# Altium footprint library BC80725215.PcbLib: 3 footprints
Each footprint in its own frame and in the unit in brackets; x right, y up, seen from the top. Pads: shape width x height; smd on the part's side, far side on the other; paste and mask are expansions set on the pad; w line width, h text height; cw(c..) or ccw(c..) is an arc to the next point about the centre after c.
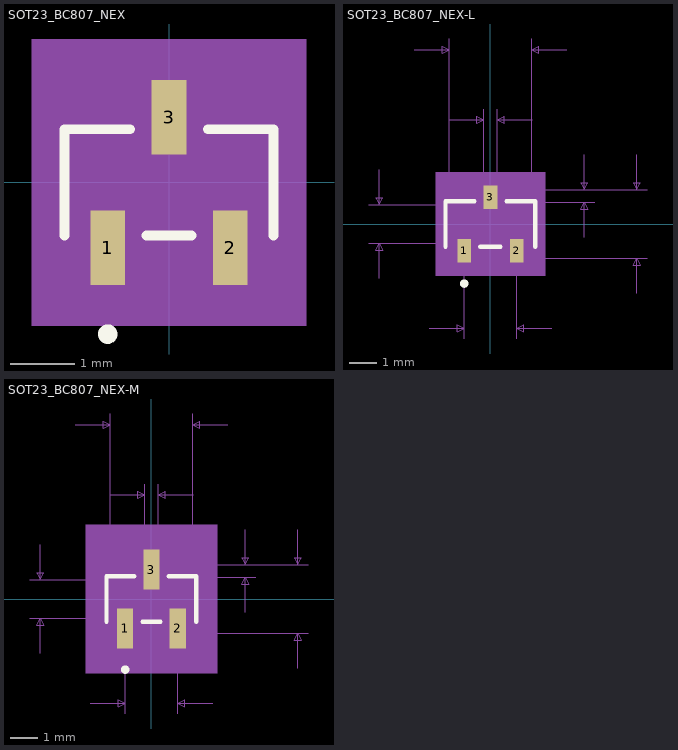
[diagram p0: the footprints below, top view; thin cyan lines are the x and y axes]

## SOT23_BC807_NEX [mil]
pads (3):
  rect 21.36x45.56 smd paste+0 mask+0: 1(-37.5,-40) 2(37.5,-40) 3(0,40)
Top Overlay:
  circle w6: c-37.5,-92.78 r3
  lines w6: -64,-32.5 -64,32.5 -23.78,32.5 ; -13.72,-32.5 13.72,-32.5 ; 23.78,32.5 64,32.5 64,-32.5
Mechanical 5:
  region: -84,87.78 84,87.78 84,-87.78 -84,-87.78
Mechanical 13:
  circle w0: c-37.5,-17.5 r3
  lines w1: -59,-27.5 -59,27.5 59,27.5 59,-27.5 -59,-27.5 ; -47,-49 -28,-49 -28,-27.5 -47,-27.5 -47,-49 ; -9.5,27.5 -9.5,49 9.5,49 9.5,27.5 -9.5,27.5 ; 28,-49 47,-49 47,-27.5 28,-27.5 28,-49
Mechanical 15:
  region: -69,-37.5 -69,37.5 -19.5,37.5 -19.5,72.78 19.5,72.78 19.5,37.5 69,37.5 69,-37.5 57,-37.5 57,-72.78 -57,-72.78 -57,-37.5
  lines w6: -69,-37.5 -57,-37.5 -57,-72.78 57,-72.78 57,-37.5 69,-37.5 69,37.5 19.5,37.5 19.5,72.78 -19.5,72.78 -19.5,37.5 -69,37.5 -69,-37.5
3D body "SOT23_BC807_NEX.step": height 43.11, standoff 0, extent -59.01,-49.01 59.02,49.02
3D body: height 10, standoff 0, extent 0,0 10,10

## SOT23_BC807_NEX-L [mil]
pads (3):
  rect 19.79x33.75 smd paste+0 mask+0: 1(-37.5,-38.03) 2(37.5,-38.03) 3(0,38.03)
Top Overlay:
  circle w6: c-37.5,-84.91 r3
  lines w6: -64,-32.5 -64,32.5 -22.99,32.5 ; -14.51,-32.5 14.51,-32.5 ; 22.99,32.5 64,32.5 64,-32.5
Mechanical 5:
  region: -78,73.91 78,73.91 78,-73.91 -78,-73.91
Mechanical 7:
  lines w1: -174,-27.5 0,-27.5 ; -174,27.5 0,27.5 ; -159,-77.5 -159,-27.5 ; -159,77.5 -159,27.5 ; -109,249 -59,249 ; -87.5,-149 -37.5,-149 ; -59.5,149 -9.5,149 ; -59,27.5 -59,264 ; -37.5,-164 -37.5,-49 ; -9.5,49 -9.5,164 ; 0,-49 224,-49 ; 0,31 149,31 ; 9.5,49 9.5,164 ; 37.5,-164 37.5,-49 ; 59,27.5 59,264 ; 59.5,149 9.5,149 ; 87.5,-149 37.5,-149 ; 109,249 59,249 ; 134,-19 134,31 ; 134,99 134,49 ; 149,49 0,49 224,49 ; 209,-99 209,-49 ; 209,99 209,49 ; -159,-27.5 -154,-37.5 -164,-37.5 -159,-27.5 ; -159,27.5 -154,37.5 -164,37.5 -159,27.5 ; -59,249 -69,244 -69,254 -59,249 ; -37.5,-149 -47.5,-154 -47.5,-144 -37.5,-149 ; -9.5,149 -19.5,144 -19.5,154 -9.5,149 ; 9.5,149 19.5,144 19.5,154 9.5,149 ; 37.5,-149 47.5,-154 47.5,-144 37.5,-149 ; 59,249 69,244 69,254 59,249 ; 134,31 139,21 129,21 134,31 ; 134,49 139,59 129,59 134,49 ; 209,-49 214,-59 204,-59 209,-49 ; 209,49 214,59 204,59 209,49
  text "0.055in/1.397mm" at -366.5,-12.5 h25
  text "0.118in/2.997mm" at -93.75,269 h25
  text "0.019in/0.483mm" at -93.75,169 h25
  text "0.075in/1.905mm" at -93.75,-194 h25
  text "0.018in/0.457mm" at 154,27.5 h25
  text "0.098in/2.489mm" at 229,-12.5 h25
  text "Alt 2 Padstyle: b229_152h76" at -337.5,-529.91 h50
  text "Alt 1 Padstyle: b152_229h76" at -337.5,-454.91 h50
  text "Bottom Padstyle: r50_86" at -287.5,-379.91 h50
  text "Top Padstyle: c50" at -212.5,-304.91 h50
Mechanical 13:
  circle w0: c-37.5,-17.5 r3
  lines w1: -59,-27.5 -59,27.5 59,27.5 59,-27.5 -59,-27.5 ; -47,-49 -28,-49 -28,-27.5 -47,-27.5 -47,-49 ; -9.5,27.5 -9.5,49 9.5,49 9.5,27.5 -9.5,27.5 ; 28,-49 47,-49 47,-27.5 28,-27.5 28,-49
Mechanical 15:
  region: -63,-31.5 -63,31.5 -13.5,31.5 -13.5,58.91 13.5,58.91 13.5,31.5 63,31.5 63,-31.5 51,-31.5 51,-58.91 -51,-58.91 -51,-31.5
  lines w6: -63,-31.5 -51,-31.5 -51,-58.91 51,-58.91 51,-31.5 63,-31.5 63,31.5 13.5,31.5 13.5,58.91 -13.5,58.91 -13.5,31.5 -63,31.5 -63,-31.5
3D body "SOT23_BC807_NEX-L.step": height 43.11, standoff 0, extent -59.01,-49.01 59.02,49.02
3D body: height 10, standoff 0, extent 0,0 10,10

## SOT23_BC807_NEX-M [mil]
pads (3):
  rect 22.94x57.37 smd paste+0 mask+0: 1(-37.5,-41.97) 2(37.5,-41.97) 3(0,41.97)
Top Overlay:
  circle w6: c-37.5,-100.65 r3
  lines w6: -64,-32.5 -64,32.5 -24.57,32.5 ; -12.93,-32.5 12.93,-32.5 ; 24.57,32.5 64,32.5 64,-32.5
Mechanical 5:
  region: -94,105.65 94,105.65 94,-105.65 -94,-105.65
Mechanical 7:
  lines w1: -174,-27.5 0,-27.5 ; -174,27.5 0,27.5 ; -159,-77.5 -159,-27.5 ; -159,77.5 -159,27.5 ; -109,249 -59,249 ; -87.5,-149 -37.5,-149 ; -59.5,149 -9.5,149 ; -59,27.5 -59,264 ; -37.5,-164 -37.5,-49 ; -9.5,49 -9.5,164 ; 0,-49 224,-49 ; 0,31 149,31 ; 9.5,49 9.5,164 ; 37.5,-164 37.5,-49 ; 59,27.5 59,264 ; 59.5,149 9.5,149 ; 87.5,-149 37.5,-149 ; 109,249 59,249 ; 134,-19 134,31 ; 134,99 134,49 ; 149,49 0,49 224,49 ; 209,-99 209,-49 ; 209,99 209,49 ; -159,-27.5 -164,-37.5 -154,-37.5 -159,-27.5 ; -159,27.5 -164,37.5 -154,37.5 -159,27.5 ; -59,249 -69,254 -69,244 -59,249 ; -37.5,-149 -47.5,-144 -47.5,-154 -37.5,-149 ; -9.5,149 -19.5,154 -19.5,144 -9.5,149 ; 9.5,149 19.5,154 19.5,144 9.5,149 ; 37.5,-149 47.5,-144 47.5,-154 37.5,-149 ; 59,249 69,254 69,244 59,249 ; 134,31 129,21 139,21 134,31 ; 134,49 129,59 139,59 134,49 ; 209,-49 204,-59 214,-59 209,-49 ; 209,49 204,59 214,59 209,49
  text "Top Padstyle: c58" at -212.5,-320.65 h50
  text "Bottom Padstyle: r58_146" at -300,-395.65 h50
  text "Alt 1 Padstyle: b152_229h76" at -337.5,-470.65 h50
  text "Alt 2 Padstyle: b229_152h76" at -337.5,-545.65 h50
  text "0.098in/2.489mm" at 229,-12.5 h25
  text "0.018in/0.457mm" at 154,27.5 h25
  text "0.075in/1.905mm" at -93.75,-194 h25
  text "0.019in/0.483mm" at -93.75,169 h25
  text "0.118in/2.997mm" at -93.75,269 h25
  text "0.055in/1.397mm" at -366.5,-12.5 h25
Mechanical 13:
  circle w0: c-37.5,-17.5 r3
  lines w1: -59,-27.5 59,-27.5 59,27.5 -59,27.5 -59,-27.5 ; -47,-49 -47,-27.5 -28,-27.5 -28,-49 -47,-49 ; -9.5,27.5 9.5,27.5 9.5,49 -9.5,49 -9.5,27.5 ; 28,-49 28,-27.5 47,-27.5 47,-49 28,-49
Mechanical 15:
  region: -79,-47.5 -79,47.5 -29.5,47.5 -29.5,90.65 29.5,90.65 29.5,47.5 79,47.5 79,-47.5 67,-47.5 67,-90.65 -67,-90.65 -67,-47.5
  lines w6: -79,-47.5 -79,47.5 -29.5,47.5 -29.5,90.65 29.5,90.65 29.5,47.5 79,47.5 79,-47.5 67,-47.5 67,-90.65 -67,-90.65 -67,-47.5 -79,-47.5
3D body: height 10, standoff 0, extent 0,0 10,10
3D body "SOT23_BC807_NEX-M.step": height 43.11, standoff 0, extent -59.01,-49.01 59.02,49.02